# EAGLE library part ADXL355 (library analog)
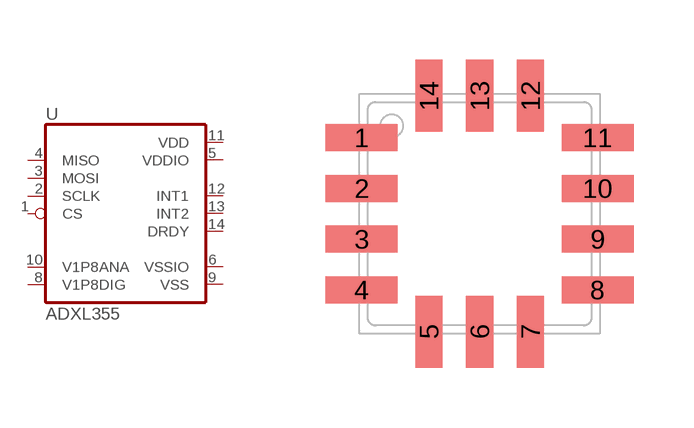
[diagram p4: symbol with the pads of LCC-14-E-14-1; footprint LCC-14-E-14-1]

Designator prefix -

## ADXL355BEZ  [LCC-14-E-14-1]
1  CS  out
2  SCLK  out
3  MOSI  out
4  MISO  out
5  VDDIO  out
6  VSSIO  out
8  V1P8DIG  out
9  VSS  out
10  V1P8ANA  out
11  VDD  out
12  INT1  out
13  INT2  out
14  DRDY  out

## Footprint LCC-14-E-14-1 (pad centres in mm)
smd 1.8 x 0.68: 1 -2.95,1.905; 2 -2.95,0.635; 3 -2.95,-0.635; 4 -2.95,-1.905; 8 2.95,-1.905; 9 2.95,-0.635; 10 2.95,0.635; 11 2.95,1.905
smd 0.68 x 1.8: 5 -1.27,-2.95; 6 0,-2.95; 7 1.27,-2.95; 12 1.27,2.95; 13 0,2.95; 14 -1.27,2.95